# Altium schematic symbol library APHBM2012.Schlib: 1 symbol
Pins are listed as number, name and electrical type; pins without a type are passive.

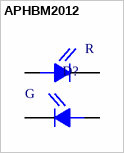
[diagram p0: symbol APHBM2012]

## APHBM2012
designator D?  (value not drawn)
pins: 1 A_R, 2 C_R, 3 C_G, 4 A_G
text: R; G